# Altium footprint library PCB - RF BALUN - MURATA DXW21HN.PcbLib: 1 footprints
Each footprint in its own frame and in the unit in brackets; x right, y up, seen from the top. Pads: shape width x height; smd on the part's side, far side on the other; paste and mask are expansions set on the pad; w line width, h text height; cw(c..) or ccw(c..) is an arc to the next point about the centre after c.
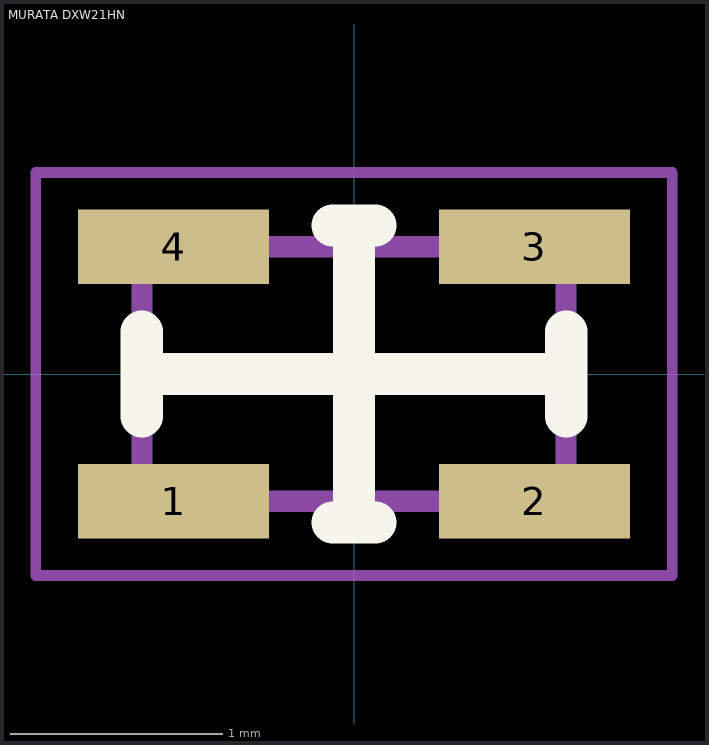
[diagram p0: the footprint, top view; thin cyan lines are the x and y axes]

## MURATA DXW21HN [mm] "WW Balun 0805"
height 1
pads (4):
  rect 0.9x0.35 smd: 1(-0.85,-0.6) 2(0.85,-0.6) 3(0.85,0.6) 4(-0.85,0.6)
Top Overlay:
  lines w0.2: -1,-0.2 -1,0.2 ; -1,0 0,0 ; -0.1,-0.7 0.1,-0.7 ; -0.1,0.7 0.1,0.7 ; 0,-0.7 0,0 ; 0,0.7 0,0 ; 1,-0.2 1,0.2 ; 1,0 0,0
Mechanical 13:
  lines w0.1: -1,-0.6 -1,0.6 1,0.6 1,-0.6 -1,-0.6
Mechanical 15:
  lines w0.05: -1.5,-0.95 -1.5,0.95 1.5,0.95 1.5,-0.95 -1.5,-0.95
  lines w0.1: -0.5,0 0.5,0 ; 0,-0.5 0,0.5
3D body "Murata DXW21HN.step": height 1, standoff 0, extent -1.01,-0.61 1.01,0.61